# EAGLE library part 1072-BOOST-SMT (library spietz-library-2)
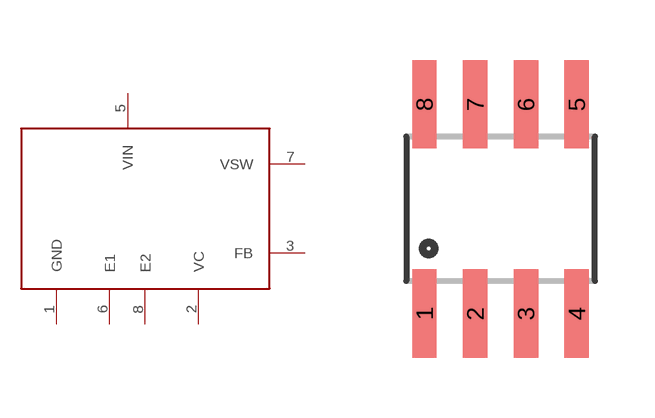
[diagram p17: symbol with the pads of 8-SOIC; footprint 8-SOIC]

Designator prefix -

## 1072-BOOST-SMT  [8-SOIC]
1  GND
2  VC
3  FB
5  VIN
6  E1
7  VSW
8  E2

## Footprint 8-SOIC (pad centres in mm)
smd 0.61 x 2.21: 1 -1.905,-2.616; 2 -0.635,-2.616; 3 0.635,-2.616; 4 1.905,-2.616; 5 1.905,2.616; 6 0.635,2.616; 7 -0.635,2.616; 8 -1.905,2.616